# Altium schematic symbol library PTVS3V3S1UR.SchLib: 1 symbol
Pins are listed as number, name and electrical type; pins without a type are passive.

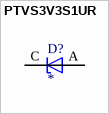
[diagram p0: symbol PTVS3V3S1UR]

## PTVS3V3S1UR
designator D?
TVS Diode Single Uni-Dir 3.3V 400W Automotive 2-Pin SOD-123W T/R; MP: PTVS3V3S1UR; MF: NXP Semiconductors; Price: None; SnapEDA_Link: https://www.snapeda.com/parts/PTVS3V3S1UR/NXP+Semiconductors/view-part/?ref=snap; Availability: In Stock; Purchase-URL: https://pricing.snapeda.com/search/part/PTVS3V3S1UR/?ref=eda; Check_prices: https://www.snapeda.com/parts/PTVS3V3S1UR/NXP+Semiconductors/view-part/?ref=eda; Value: *; Package: None
footprint TVS_PTVS3V3S1UR
pins: A, C